# Altium schematic symbol library Sub1GHz_wireless_system_schlib.SchLib: 40 symbols
Pins are listed as number, name and electrical type; pins without a type are passive.

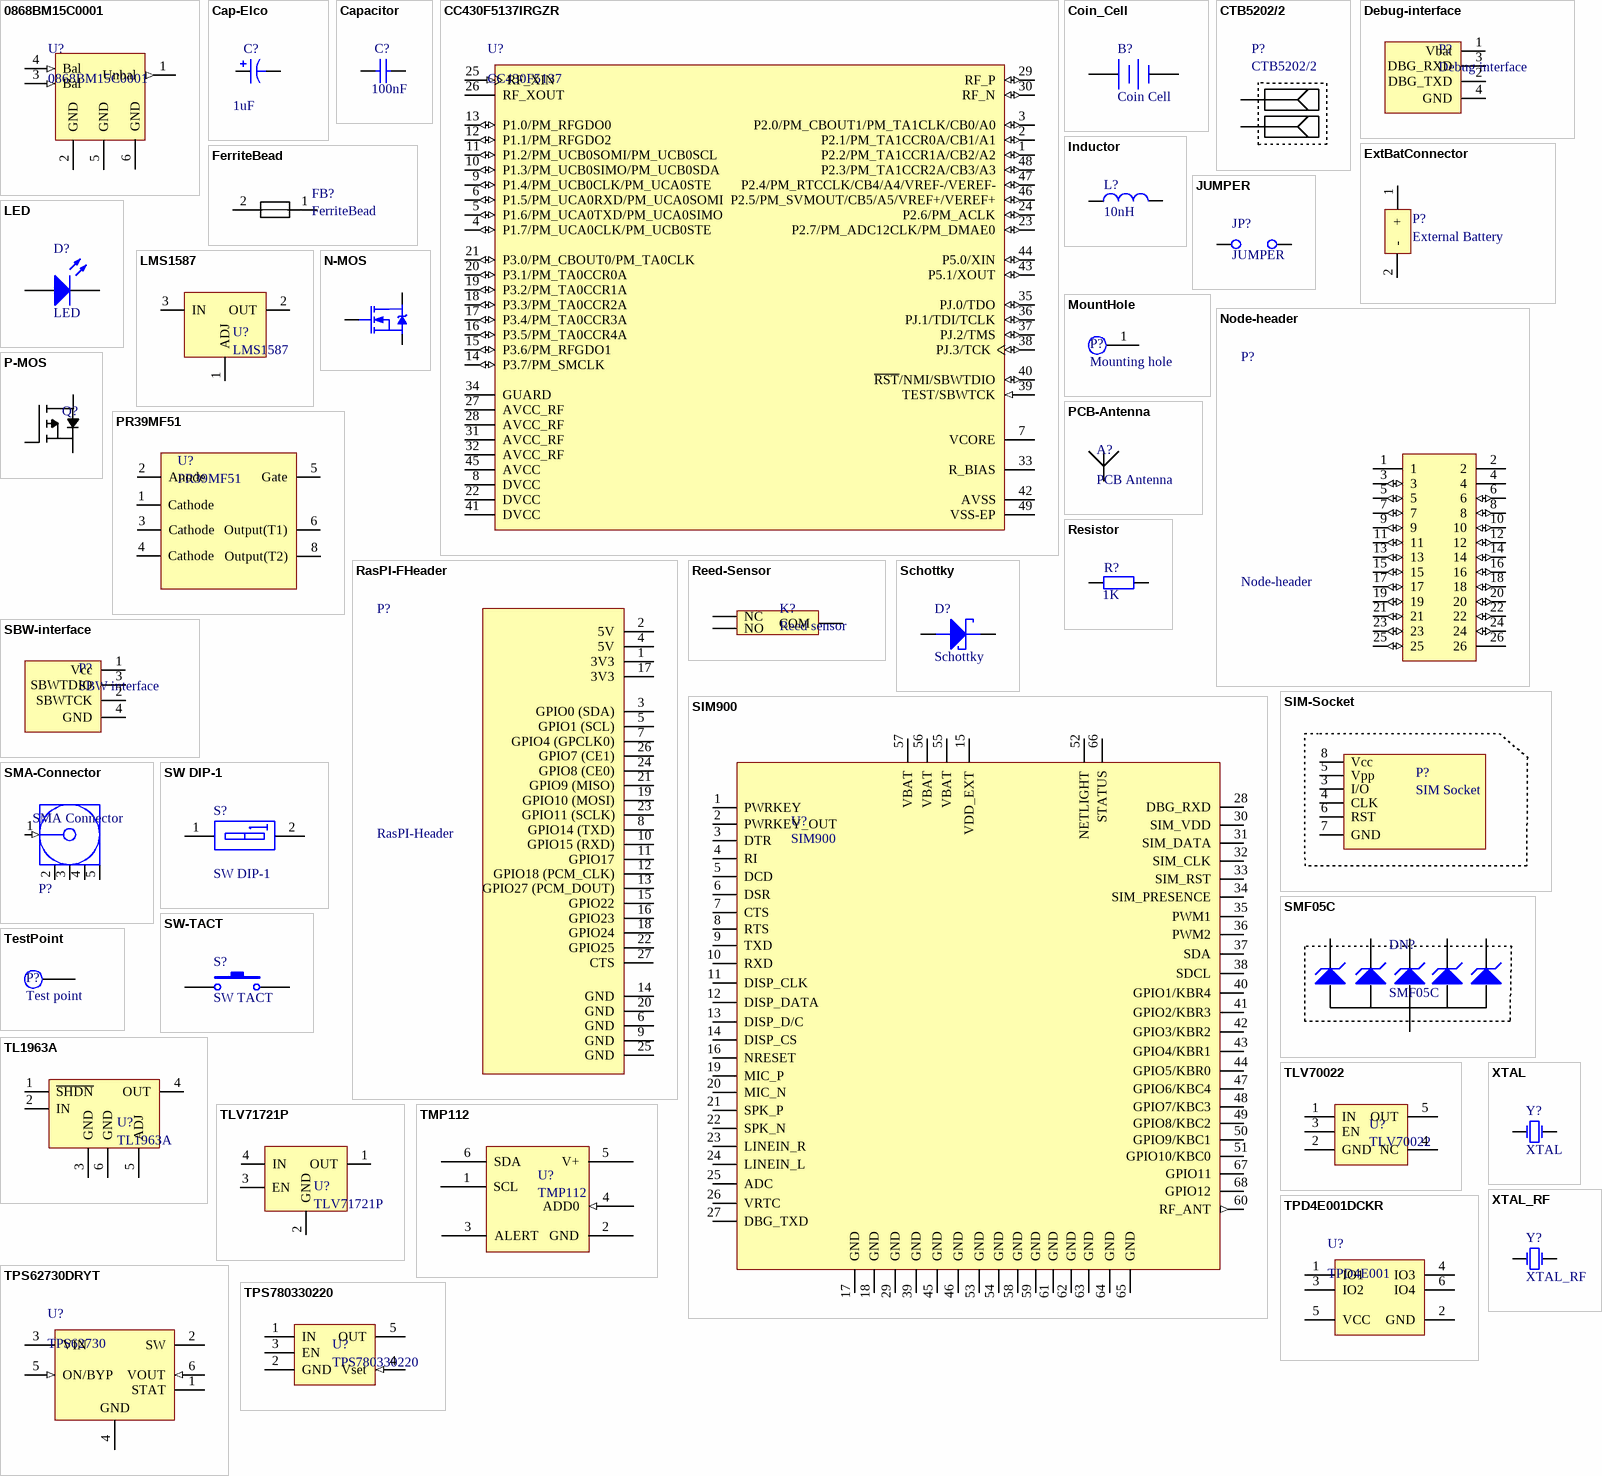
[diagram p0: symbols 0868BM15C0001 to XTAL_RF]

## 0868BM15C0001
designator U?
868MHz Impedance Matched/Balun/BPF Integrated Component for T.I. CC110X, CC430, etc.; Manufacturer: Johanson Technology; PackageReference: 0805; Supplier 1: Farnell; Mounting Technology: Surface Mount; PartNumber: 0868BM15C0001
footprint JT_Balun (footprint of 0868BM15C0001)
pins: 1 Unbal (out), 2 GND (power) "Ground", 3 Bal (in), 4 Bal (in), 5 GND (power), 6 GND (power)

## Cap-Elco
designator C?, comment 1uF
Polarized Capacitor; Value: 1uF
footprint 7343_D
footprint 3528_B (3528 TANTaL SMD "B"-Package)
pins: 1, 2
1 alternate drawing of the same symbol

## Capacitor
designator C?, comment 100nF
Capacitor; Value: 100nF
footprint 0805_CAP (0805_Cap)
footprint 1206_CAP_160 (1206 kapacitás 1.6mm magas)
pins: 1, 2

## CC430F5137IRGZR
designator U?, comment CC430F5137
20 MHz MSP430 SoC with RF Core with 32 KB Flash, 4096 B SRAM and 30 GPIOs, -40 to 85 degC, 48-pin QFN (RGZ), Green (RoHS & no Sb/Br); Manufacturer: Texas Instruments; PartNumber: CC430F5137IRGZR; ADC: Yes; ADC Channels: 6; DMA: 3; Flash(KB): 32; Frequency(MHz): 20; GPIO: 30; Multiplier: 32x32; SRAM(B): 4096; SubFamily: RF SoC Series; Timers - 16-bit: 2; USCI_A (UART/LIN/IrDA/SPI): 1; DatasheetVersion: SLAS554F; PackageVersion: 4204101/F; PackageReference: RGZ48-4100X4100TP; PackageDescription: 48-Pin Plastic Flat Pack, Body 7 x 7 mm, Pitch 0.5 mm; Supplier 1: Digi-Key; Supplier Part Number 1: 296-27420-2-ND; Supplier 2: Digi-Key; Supplier Part Number 2: 296-27420-1-ND; Supplier 3: Digi-Key; Supplier Part Number 3: 296-27420-6-ND; Supplier 4: Newark; Supplier Part Number 4: 68R5912; Supplier 5: Mouser; Supplier Part Number 5: 595-CC430F5137IRGZR; Brown Out Reset: Yes; Comparators: Yes; Eco-Plan: Green (RoHS & no Sb/Br); Real-Time Clock: Yes; SVS: Yes; Temp Sensor: Yes; USCI_B (I2C & SPI): 1; Watchdog: Yes; Mounting Technology: Surface Mount; Code_JEDEC: MO-220; ComponentLink1Description: Manufacturer URL; ComponentLink1URL: http://www.ti.com/; ComponentLink2Description: Datasheet; ComponentLink2URL: http://www.ti.com/general/docs/lit/getliterature.tsp?genericPartNumber=CC430F5137&fileType=pdf; ComponentLink3Description: Package Specification; ComponentLink3URL: http://www.ti.com/lit/ds/symlink/sn75dp139.pdf; Supplier 6: TI Sample (CC430F5137IRGZR)
footprint TI-RGZ48-4100X4100TP_N (QFN, 48-Leads, Body 7x7mm, Pitch 0.5mm, Thermal Pad 4.1x4.1mm, IPC Medium Density)
pins: 1 P2.2/PM_TA1CCR1A/CB2/A2 (io), 2 P2.1/PM_TA1CCR0A/CB1/A1 (io), 3 P2.0/PM_CBOUT1/PM_TA1CLK/CB0/A0 (io), 4 P1.7/PM_UCA0CLK/PM_UCB0STE (io), 5 P1.6/PM_UCA0TXD/PM_UCA0SIMO (io), 6 P1.5/PM_UCA0RXD/PM_UCA0SOMI (io), 7 VCORE "Regulated core power supply", 8 DVCC (power) "Digital power supply", 9 P1.4/PM_UCB0CLK/PM_UCA0STE (io), 10 P1.3/PM_UCB0SIMO/PM_UCB0SDA (io), 11 P1.2/PM_UCB0SOMI/PM_UCB0SCL (io), 12 P1.1/PM_RFGDO2 (io), 13 P1.0/PM_RFGDO0 (io), 14 P3.7/PM_SMCLK (io), 15 P3.6/PM_RFGDO1 (io), 16 P3.5/PM_TA0CCR4A (io), 17 P3.4/PM_TA0CCR3A (io), 18 P3.3/PM_TA0CCR2A (io), 19 P3.2/PM_TA0CCR1A (io), 20 P3.1/PM_TA0CCR0A (io), 21 P3.0/PM_CBOUT0/PM_TA0CLK (io), 22 DVCC (power) "Digital power supply", 23 P2.7/PM_ADC12CLK/PM_DMAE0 (io), 24 P2.6/PM_ACLK (io), 25 RF_XIN (in) "Input terminal for RF crystal oscillator, or external clock input", 26 RF_XOUT "Output terminal for RF crystal oscillator", 27 AVCC_RF (power) "Radio analog power supply", 28 AVCC_RF (power) "Radio analog power supply", 29 RF_P (io) "Positive RF input to LNA in receive mode Positive RF output from PA in transmit mode", 30 RF_N (io) "Negative RF input to LNA in receive mode Negative RF output from PA in transmit mode", 31 AVCC_RF (power) "Radio analog power supply", 32 AVCC_RF (power) "Radio analog power supply", 33 R_BIAS "External bias resistor for radio reference current", 34 GUARD (power) "Power supply connection for digital noise isolation", 35 PJ.0/TDO (io), 36 PJ.1/TDI/TCLK (io), 37 PJ.2/TMS (io), 38 PJ.3/TCK (io), 39 TEST/SBWTCK (in), 40 ~{RST}/NMI/SBWTDIO (io), 41 DVCC (power) "Digital power supply", 42 AVSS (power) "Analog ground supply for ADC12", 43 P5.1/XOUT (io), 44 P5.0/XIN (io), 45 AVCC (power) "Analog power supply", 46 P2.5/PM_SVMOUT/CB5/A5/VREF+/VEREF+ (io), 47 P2.4/PM_RTCCLK/CB4/A4/VREF-/VEREF- (io), 48 P2.3/PM_TA1CCR2A/CB3/A3 (io), 49 VSS-EP "Ground supply The exposed die attach pad must be connected to a solid ground plane as this is the ground connection for the chip."

## Coin_Cell
designator B?, comment Coin Cell
Represents a 24,5mm diameter coin cell battery (holder); Supplier: Farnell: 1365934; Type: JBH24
footprint Coin_Cell_Holder_Keystone1025-7 (Made for keystone 1025-7 model holder (ref CR2477))
footprint Coin_Cell_Retainer (Keystone 3006 SMD battery holder)
footprint COIN_CELL_HOLDER_JBH24 (Based on JBH24 Jauch coin cell holder)
pins: 1 +, 2 -

## CTB5202/2
designator P?
2 Pole Screw Terminal; Supplier: Farnell: 1717001
footprint ScrewTerminal2p5pitch_thru-hole (Based on Camdenboss CTB5202/2 screw terminal model)
pins: 1, 2

## Debug-interface
designator P?, comment Debug interface
4 pole connector for SIM900 serial debug communication; Supplier: Farnell: 1711329; Type: MOLEX - 87438-0443
footprint TESTPOINT4 (Based on Hirose DF3A-4P-2DS model.)
pins: 1 Vbat (power), 2 DBG_TXD, 3 DBG_RXD, 4 GND (power)

## ExtBatConnector
designator P?, comment External Battery
Simple 2 trhu-hole connection for extra batteries
footprint DF3A-2P-2DS (For power source connection. (DF3A- 2P-2DS))
pins: 1 + (power), 2 - (power)

## FerriteBead
designator FB?
Ferrite Bead
footprint 0805_RES (0805_Res)
pins: 1, 2

## Inductor
designator L?, comment 10nH
Inductor; Value: 10nH
footprint 1210_IND (Choosen model: 36502A12NJTDG(TE))
footprint 0805_Ind (0805_Inductance)
pins: 1, 2

## JUMPER
designator JP?
Jumper Wire; Supplier: Farnell 1668537×1/6
footprint JUMPER (2×1 tüskesor)
pins: 1, 2

## LED
designator D?
Typical GaAs LED
footprint 0805_LED_BLUE (0805 Blue LED)
footprint 0805_LED_GREEN (0805 Green LED)
footprint 0805_LED_RED (0805 Red LED)
pins: 1 A, 2 K

## LMS1587
designator U?
Adjustable LDO up to 3A; Supplier: TI sample; Supplier (compatible model): lomex [89-10-28]
footprint TO-263 (DDPAK) (D2-PAK, 4-Pads, Body 8,8x10,5mm (max), IPC Medium Density)
pins: 1 ADJ, 2 OUT, 3 IN

## MountHole
designator P?, comment Mounting hole
Mounting hole - 2.9mm drilled diameter
footprint MountHole
pins: 1

## N-MOS
designator Q?  (value not drawn)
FDV301N, N CH, 25V, 0.22A, SOT23; Supplier: Lomex: 86-03-44
footprint SOT23
pins: 1 G, 2 S, 3 D

## Node-header
designator P?
Female Header of the node pi 13x2 GPIO connector
footprint Node_Header (Node Header; 13x2 Position, 2mm pitch, surface mount)
footprint FH26p2pitch_thru-hole (Node Header; 13x2 Position, 2mm pitch, through-hole)
pins: 1 (power), 2 (power), 3 (io), 4 (power), 5 (io), 6 (io), 7 (io), 8 (io), 9 (io), 10 (io), 11 (io), 12 (io), 13 (io), 14 (io), 15 (io), 16 (io), 17 (io), 18 (io), 19 (io), 20 (io), 21 (io), 22 (io), 23 (io), 24 (io), 25 (io), 26 (power)

## P-MOS
designator Q?  (value not drawn)
irlml6401, P CH, -12V, 4A, SOT23; Supplier: Ebay
footprint SOT23
pins: 1 G, 2 S, 3 D

## PCB-Antenna
designator A?, comment PCB Antenna
TI Monopole PCB Antenna at 868MHz operating frequency; Details: Low cost, medium size PCB antenna solution by Texas Instruments. See details: DN024 de
footprint TI_Monopole_PCB_Antenna
pins: 1 ANT

## PR39MF51
designator U?
PR39MF51 SSR, 1.2A; Supplier: Farnell: 1618487
footprint SSR_SMT_LEAD (Footprint of Sharp SMT Solid StateRelays (SMT Gullwing Lead-form)))
pins: 1 Cathode, 2 Anode, 3 Cathode, 4 Cathode, 5 Gate, 6 Output(T1), 8 Output(T2)

## RasPI-FHeader
designator P?, comment RasPI-Header
Female Header of raspberry pi 13x2 GPIO connector
footprint FH26p254pitch_thru-hole (Connector; Header; 13x2 Position, 2.54mm pitch, thru-hole)
pins: 1 3V3 (power), 2 5V, 3 GPIO0 (SDA), 4 5V, 5 GPIO1 (SCL), 6 GND, 7 GPIO4 (GPCLK0), 8 GPIO14 (TXD), 9 GND, 10 GPIO15 (RXD), 11 GPIO17, 12 GPIO18 (PCM_CLK), 13 GPIO27 (PCM_DOUT), 14 GND, 15 GPIO22, 16 GPIO23, 17 3V3, 18 GPIO24, 19 GPIO10 (MOSI), 20 GND, 21 GPIO9 (MISO), 22 GPIO25, 23 GPIO11 (SCLK), 24 GPIO8 (CE0), 25 GND, 26 GPIO7 (CE1), 27 CTS

## Reed-Sensor
designator K?, comment Reed sensor
Reed sensor for proximity sensing; Type/Supplier: ORT551 / lomex: 42-01-87; Type/Supplier: MK15-B-2-OE  / 1079484
footprint Reed_Sensor (Based on ORT551)
footprint REED_SENSOR_SMD (Based on MK15-B-2-OE)
pins: 1 COM, 2 NC, 3 NO

## Resistor
designator R?, comment 1K
Resistor; Value: 1K
footprint 0805_RES (0805_Res)
pins: 1, 2

## SBW-interface
designator P?, comment SBW interface
4 pole connector for debugging and programming; Supplier: Farnell: 1711329; Type: MOLEX - 87438-0443
footprint DF3A-4P-2DS (Based on Hirose DF3A-4P-2DS model.)
pins: 1 Vcc (power), 2 SBWTCK (oc), 3 SBWTDIO (oc), 4 GND (power)

## Schottky
designator D?
NXP - 1PS76SB10, SCHOTTKY RECT 30V 0.2A SOD323; Supplier: Lomex 83-02-04
footprint SOD323-F (SOD323-F (SC-90))
pins: 1 CATHODE, 2 ANODE

## SIM900
designator U?
SIM900 GSM modul; Supplier: TME
footprint SIM900
pins: 1 PWRKEY, 2 PWRKEY_OUT, 3 DTR, 4 RI, 5 DCD, 6 DSR, 7 CTS, 8 RTS, 9 TXD, 10 RXD, 11 DISP_CLK, 12 DISP_DATA, 13 DISP_D/C, 14 DISP_CS, 15 VDD_EXT, 16 NRESET, 17 GND, 18 GND, 19 MIC_P, 20 MIC_N, 21 SPK_P, 22 SPK_N, 23 LINEIN_R, 24 LINEIN_L, 25 ADC, 26 VRTC, 27 DBG_TXD, 28 DBG_RXD, 29 GND, 30 SIM_VDD, 31 SIM_DATA, 32 SIM_CLK, 33 SIM_RST, 34 SIM_PRESENCE, 35 PWM1, 36 PWM2, 37 SDA, 38 SDCL, 39 GND, 40 GPIO1/KBR4, 41 GPIO2/KBR3, 42 GPIO3/KBR2, 43 GPIO4/KBR1, 44 GPIO5/KBR0, 45 GND, 46 GND, 47 GPIO6/KBC4, 48 GPIO7/KBC3, 49 GPIO8/KBC2, 50 GPIO9/KBC1, 51 GPIO10/KBC0, 52 NETLIGHT, 53 GND, 54 GND, 55 VBAT, 56 VBAT, 57 VBAT, 58 GND, 59 GND, 60 RF_ANT (out), 61 GND, 62 GND, 63 GND, 64 GND, 65 GND, 66 STATUS, 67 GPIO11, 68 GPIO12

## SIM-Socket
designator P?, comment SIM Socket
SIM socket according to Assman A-SIM-08-06-C-003 model; Supplier: HEStore: 10026633
footprint SIM_Card_Socket_Amphenol (Based on Amphenol TSM-AY254-6P SIM socket)
pins: 3 I/O, 4 CLK, 5 Vpp, 6 RST, 7 GND (power), 8 Vcc (power)

## SMA-Connector
designator P?, comment SMA Connector
LRPS PCB Mount Connector, Thru-Hole; Supplier: Farnell: 2096224  / 2096223
footprint SMA_Connector (LPRF low cost sma connector (straight jack))
footprint SMA_Connector _Right_Angle (LPRF low cost sma connector (Right Angle))
pins: 1 Signal (in) "Signal Pin", 2 GND (power), 3 GND (power), 4 GND (power), 5 GND (power)

## SMF05C
designator DN?
Supressor diode array; Supplier: Farnell: 2059033
footprint SC70-6 (Based on SMF05C supressor dioide array)
pins: 1 K, 2 A, 3 K, 4 K, 5 K, 6 K

## SW DIP-1
designator S?
DIP Switch, 1 Position; PackageReference: DIP-1 pole; Supplier: Farnell: 1960892
footprint SW_DIP(1way) (Footprint based on A6SN-1104 (OMRON))
pins: 1 A1, 2 B1

## SW-TACT
designator S?, comment SW TACT
Low profile, miniature tact switch; PackageDescription: Switch; 2 Leads; Supplier: Farnell: 1633006
footprint SW-TACT (Based on TL1015AF160QG(E Switch))
pins: 1, 2

## TestPoint
designator P?, comment Test point
footprint TestPoint (Test Point)
pins: 1

## TL1963A
designator U?
Adjustable LDO up to 1.5A; Supplier: TI sample
footprint 6SOT-223 ((based on TL1963A) SOT223, 6-Leads, Body 6,6x7,3mm (max), Pitch 1,27mm, IPC Medium Density)
pins: 1 ~{SHDN}, 2 IN, 3 GND, 4 OUT, 5 ADJ, 6 GND

## TLV70022
designator U?
LDO with 2.2V fix output; Vinput: 2 - 5.5V; Supplier: TI Sample
footprint SOT5
pins: 1 IN, 2 GND, 3 EN, 4 NC, 5 OUT

## TLV71721P
designator U?
Fixed  output (2.1V) LDO up to 150mA; Supplier: Ti Sample
pins: 1 OUT, 2 GND, 3 EN, 4 IN

## TMP112
designator U?
Temp sensor (serial interface, 0.5 C resolution, low supply voltage); Vcc range: 1.4 - 3.6V; Supplier: TI sample (TMP112AIDRLT)
footprint SOT563 (PCB footprint of the SOT563 package. Designed in Sub1GHz_WSN project for tmp112)
pins: 1 SCL, 2 GND (power), 3 ALERT (oc), 4 ADD0 (in), 5 V+ (power), 6 SDA

## TPD4E001DCKR
designator U?, comment TPD4E001
Low-Capacitance + / - 15-kV ESD Protection Array for High-Speed Data Interfaces, 4 Channels, -40 to +85 degC, 6-pin SOT70 (DCK), Green (RoHS & no Sb/Br); Manufacturer: Texas Instruments; PartNumber: TPD4E001DCKR; 1394 / Firewire: TRUE; Breakdown Voltage(Min)(V): 11; IEC 61000-4-2 Air-Gap(+/- kV): 15; IEC 61000-4-2 Contact(+/- kV): 8; IO Capacitance(Typ)(pF): 1.5; SubFamily: ESD Solution; DatasheetVersion: SLLS682G; PackageVersion: revG, Jan-2007; PackageReference: DCK6; PackageDescription: 6-Pin Plastic Small-Outline Package, 2 x 1.3 mm Body, 0.65 mm Pitch, 2.1 mm Lead Span; Supplier 1: Digi-Key; Supplier Part Number 1: 296-28779-2-ND; Supplier 2: Digi-Key; Supplier Part Number 2: 296-28779-1-ND; Supplier 3: Digi-Key; Supplier Part Number 3: 296-28779-6-ND; Supplier 4: Newark; Supplier Part Number 4: 48T4664; Supplier 5: Mouser; Supplier Part Number 5: 595-TPD4E001DCKR; Eco-Plan: Green (RoHS & no Sb/Br); IO Leakage Current(nA): 1.5; Serial ATA / eSATA: TRUE; USB High Speed: TRUE; Mounting Technology: Surface Mount; Code_JEDEC: MO-203-AB; ComponentLink1Description: Datasheet; ComponentLink1URL: http://www.ti.com/general/docs/lit/getliterature.tsp?genericPartNumber=TPD4E001&fileType=pdf; ComponentLink2Description: URL Link1; ComponentLink2URL: SamplesURL:http://www.ti.com/product/tpd4e001#samples
footprint SC70-6 (Based on SMF05C supressor dioide array)
pins: 1 IO1 "ESD-protected channel", 2 GND (power) "Ground", 3 IO2 "ESD-protected channel", 4 IO3 "ESD-protected channel", 5 VCC (power) "Power-supply input. Bypass VCC to GND with a 0.1-uF ceramic capacitor.", 6 IO4 "ESD-protected channel"

## TPS62730DRYT
designator U?, comment TPS62730
Buck Step Down Regulator with 1.9 to 3.9 V Input and 2.1 V Output, -40 to 85 degC, 6-Pin SON (DRY), Green (RoHS & no Sb/Br); Manufacturer: Texas Instruments; PartNumber: TPS62730DRYT; Duty Cycle(Max)(%): 100; Iout(Max)(A): 0.1; Rating: Catalog; Regulated Outputs(#): 1; SubFamily: Step-Down Regulator; Synchronous Rectification: TRUE; Vin(Max)(V): 3.9; Vin(Min)(V): 1.9; Vout(Max)(V): 2.1; DatasheetVersion: SLVSAC3A; PackageVersion: revF, Dec-2011; PackageReference: DRY6; PackageDescription: 6-Pin Plastic Small Outline No-Lead, 1 x 1.45 x 0.6 mm Body, 0.5 mm Pitch; Supplier 1: Digi-Key; Supplier Part Number 1: 296-28820-2-ND; Supplier 2: Digi-Key; Supplier Part Number 2: 296-28820-1-ND; Supplier 3: Digi-Key; Supplier Part Number 3: 296-28820-6-ND; Supplier 4: Farnell; Supplier Part Number 4: 1961827; Supplier 5: Newark; Supplier Part Number 5: 52T8814; Supplier 6: Mouser; Supplier Part Number 6: 595-TPS62730DRYT; Eco-Plan: Green (RoHS & no Sb/Br); Topology: Buck; Vout(Min)(V): 2.1; Mounting Technology: Surface Mount; ComponentLink1Description: Datasheet; ComponentLink1URL: http://www.ti.com/general/docs/lit/getliterature.tsp?genericPartNumber=TPS62730&fileType=pdf; ComponentLink2Description: Package Specification; ComponentLink2URL: http://www.ti.com/litv/pdf/mpds221e; ComponentLink3Description: URL Link1; ComponentLink3URL: Samples URL:http://www.ti.com/product/tps54611#samples; Supplier 7: TI Sample (TPS62730DRYT)
footprint DRY6 (PSON, 6-Leads, Body 1x1.45mm, Pitch 0.5mm, TI Recommended)
pins: 1 STAT (hiz) "This is the open drain status output with active low level. An internal comparator drives this output. The pin is high impedance with ON/BYP = low. With ON/BYP set to high the device and the internal VOUT comparator becomes (See Datasheet)", 2 SW (power) "This is the switch pin and is connected to the internal MOSFET switches. Connect the inductor to this terminal.", 3 VIN (power) "VIN power supply pin. Connect this pin close to the VIN terminal of the input capacitor. A ceramic capacitor of 2.2uF is required.", 4 GND (power) "GND supply pin. Connect this pin close to the GND terminal of the input and output capacitor.", 5 ON/BYP (in) "This is the mode selection pin of the device. Pulling this pin to low forces the device into ultra low power bypass mode. The output of the DC/DC converter is connected to VIN via an internal bypass switch.Pulling this pin (See Datasheet)", 6 VOUT (in) "Feedback Pin for the internal feedback divider network and regulation loop. The internal bypass switch is connected between this pin and VIN. Connect this pin directly to the output capacitor with short trace."

## TPS780330220
designator U?
LDO with 2.2V fix output; Vinput: 2.2 - 5.5V; Supplier: TI Sample
footprint SOT5
pins: 1 IN, 2 GND, 3 EN, 4 Vset (in), 5 OUT

## XTAL
designator Y?
Crystal Oscillator; Published: 8-Jun-2000; LatestRevisionDate: 17-Jul-2002; LatestRevisionNote: Re-released for DXP Platform.; PackageReference: R38; Publisher: Altium Limited; PackageDescription: Crystal, Thru-Hole; 2 Leads; Body 3.1 x 8.2 mm (Dia.xH); Supplier: Farnell: 1841998  (26M); Supplier: Lomex: 40-02-49 (32768Hz)
footprint XTAL (Based on NXZ32.768KAE125F-KAB3)
pins: 1 OSC1, 2 OSC2

## XTAL_RF
designator Y?
Crystal Oscillator; Published: 8-Jun-2000; LatestRevisionDate: 17-Jul-2002; LatestRevisionNote: Re-released for DXP Platform.; PackageReference: R38; Publisher: Altium Limited; PackageDescription: Crystal, Thru-Hole; 2 Leads; Body 3.1 x 8.2 mm (Dia.xH); Supplier: Farnell: 1841998  (26M); Supplier: Lomex: 40-02-49 (32768Hz)
footprint xtal_rf (Based on TXC - 7B-26.000MEEQ-T)
pins: 1 OSC1 (power), 3 OSC2